# EAGLE library part MICROCLASP_34POS (library Victor)
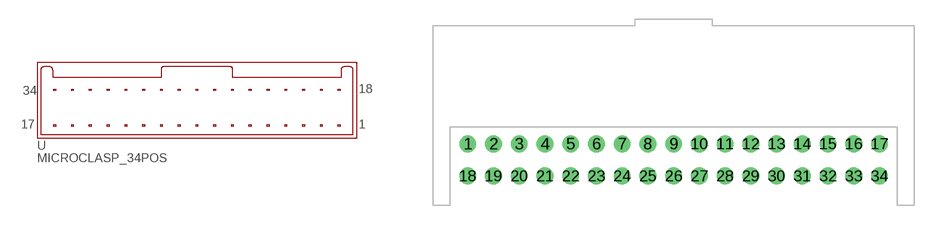
[diagram p3: symbol with the pads of MICROCLASP_34POS; footprint MICROCLASP_34POS]

Designator prefix -

## MICROCLASP_34POS  [MICROCLASP_34POS]
1  1
2  2
3  3
4  4
5  5
6  6
7  7
8  8
9  9
10  10
11  11
12  12
13  13
14  14
15  15
16  16
17  17
18  18
19  19
20  20
21  21
22  22
23  23
24  24
25  25
26  26
27  27
28  28
29  29
30  30
31  31
32  32
33  33
34  34

## Footprint MICROCLASP_34POS (pad centres in mm)
drill 0.8 round: 1 -16,0; 2 -14,0; 3 -12,0; 4 -10,0; 5 -8,0; 6 -6,0; 7 -4,0; 8 -2,0; 9 0,0; 10 2,0; 11 4,0; 12 6,0; 13 8,0; 14 10,0; 15 12,0; 16 14,0; 17 16,0; 18 -16,-2.5; 19 -14,-2.5; 20 -12,-2.5; 21 -10,-2.5; 22 -8,-2.5; 23 -6,-2.5; 24 -4,-2.5; 25 -2,-2.5; 26 0,-2.5; 27 2,-2.5; 28 4,-2.5; 29 6,-2.5; 30 8,-2.5; 31 10,-2.5; 32 12,-2.5; 33 14,-2.5; 34 16,-2.5